# Altium schematic symbol library BSC035N04LS G.SchLib: 1 symbol
Pins are listed as number, name and electrical type; pins without a type are passive.

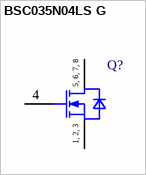
[diagram p0: symbol BSC035N04LS G]

## BSC035N04LS G
designator Q?  (value not drawn)
OptiMOS 3 Power-Transistor, VDS 40V; Manufacturer: Infineon Technologies; ManufacturerPartNumber: BSC035N04LS G; PackageReference: PG-TDSON-8-1
footprint INF-PG-TDSON-8
pins: 1 SOURCE, 2 SOURCE, 3 SOURCE, 4 GATE, 5 DRAIN, 6 DRAIN, 7 DRAIN, 8 DRAIN
text: 5, 6, 7, 8; 1, 2, 3